# Altium schematic symbol library LED(GREEN, 2.6V, 350mA, SMD-1414).SchLib: 1 symbol
Pins are listed as number, name and electrical type; pins without a type are passive.

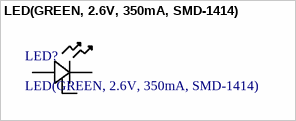
[diagram p0: symbol LED(GREEN, 2.6V, 350mA, SMD-1414)]

## LED(GREEN, 2.6V, 350mA, SMD-1414)
designator LED?
Manufacturer: Luminus Devices; Manufacturer_PN: SST-10-G-B130-F530; Package: 1414; Datasheet: https://download.luminus.com/datasheets/Luminus_SST-10-G_Datasheet.pdf; Digikey_Link: https://www.digikey.it/en/products/detail/luminus-devices-inc/SST-10-G-B130-F530/7695767
footprint LED_SST-10-G-B130_LMD
pins: 1, 2, 3